# EAGLE library part 47571-0001 (library SD_Card)
Memory Card Connectors ASSY FOR TFR HEADER HEADER W/DETECT PIN Source: Datasheet <http://www.mouser.com/ds/2/276/0475710001_MEMORY_CARD_SOCKET-170076.pdf>
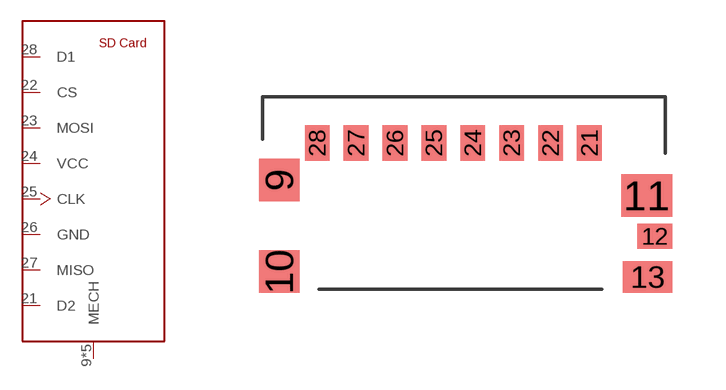
[diagram p1: symbol with the pads of 47571-0001; footprint 47571-0001]

Designator prefix J

## 47571-0001  [47571-0001]
9  MECH
10  MECH
11  MECH
12  MECH
13  MECH
21  D2  hiz
22  CS
23  MOSI
24  VCC  pwr
25  CLK  in
26  GND  pwr
27  MISO
28  D1  hiz

## Footprint 47571-0001 (pad centres in mm)
47571-0001
smd 1.15 x 1.2: 9 -5.225,0.365; 10 -5.225,-2.225
smd 1.45 x 1.2: 11 5.175,-0.075
smd 1 x 0.7: 12 5.4,-1.225
smd 1.4 x 0.9: 13 5.2,-2.375
smd 0.7 x 1: 21 3.55,1.415; 22 2.45,1.415; 23 1.35,1.415; 24 0.25,1.415; 25 -0.85,1.415; 26 -1.95,1.415; 27 -3.05,1.415; 28 -4.15,1.415